# EAGLE library part USB-MINIB_(SOVOK-UGO) (library usb)
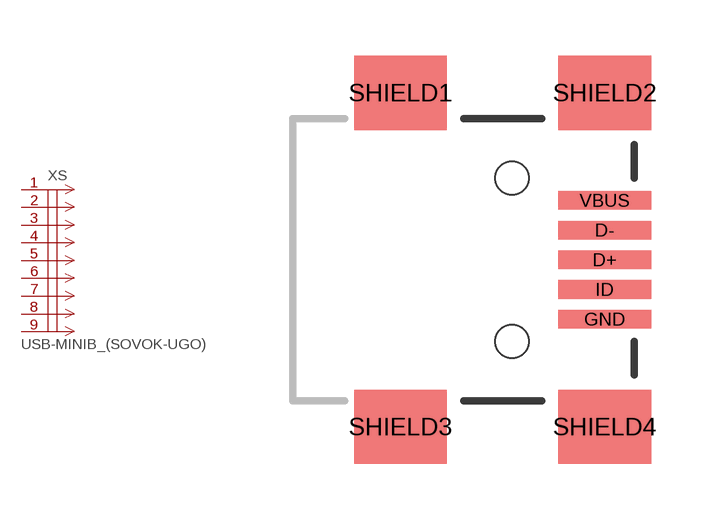
[diagram p2: symbol with the pads of USB-MINIB; footprint USB-MINIB]

Designator prefix XS

## USB-MINIB_(SOVOK-UGO)  [USB-MINIB]
D+  3  pas
D-  2  pas
GND  5  pas
ID  4  pas
SHIELD1  6  pas
SHIELD2  7  pas
SHIELD3  8  pas
SHIELD4  9  pas
VBUS  1  pas

## Footprint USB-MINIB (pad centres in mm)
USB Series Mini-B Surface Mounted
smd 2.5 x 0.5: D+ 2.5,0; D- 2.5,0.8; GND 2.5,-1.6; ID 2.5,-0.8; VBUS 2.5,1.6
smd 2.5 x 2: SHIELD1 -3,4.5; SHIELD2 2.5,4.5; SHIELD3 -3,-4.5; SHIELD4 2.5,-4.5
hole 0.9 at 0,2.2
hole 0.9 at 0,-2.2